# EAGLE library part KSZ9031RNXCC-TR (library KSZ9031RNXCC-TR)
MICROCHIP - KSZ9031RNXCC-TR - Ethernet Controller, 1 Gbps, IEEE 802.3, 1.14 V, 3.465 V, QFN, 48 Pins Source: Datasheet <http://www.microchip.com/mymicrochip/filehandler.aspx?ddocname=en585516>
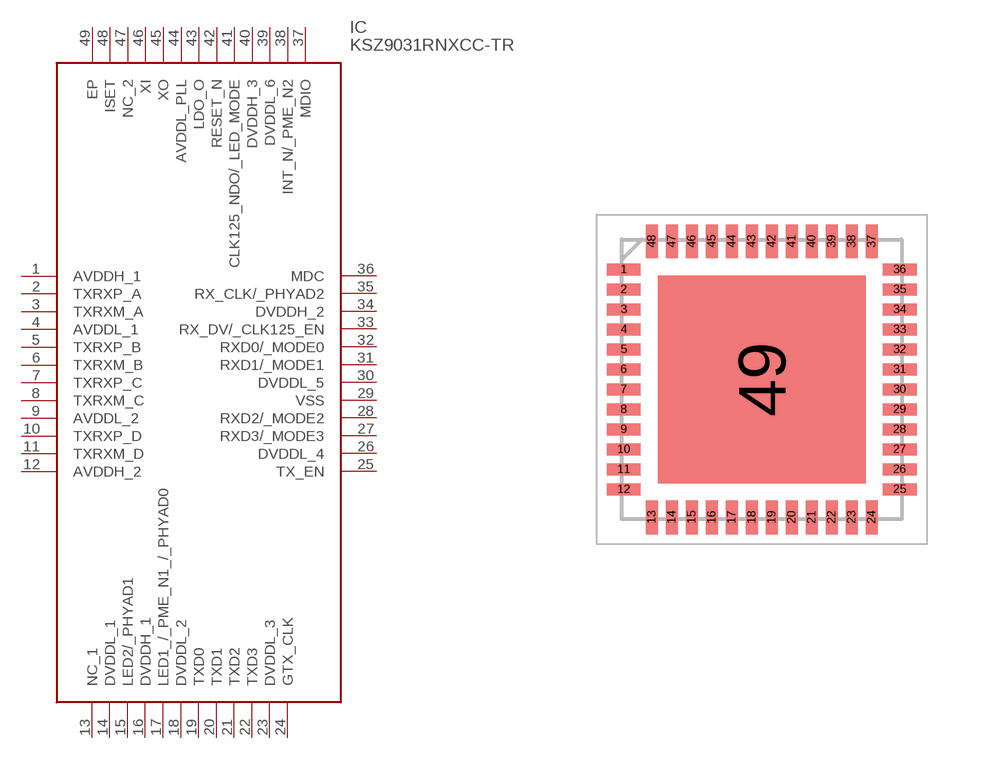
[diagram p0: symbol with the pads of QFN50P700X700X100-49N; footprint QFN50P700X700X100-49N]

Designator prefix IC

## KSZ9031RNXCC-TR (Arrow_Part_Number: KSZ9031RNXCC-TR; Arrow_Price-Stock: https://www.arrow.com/en/products/ksz9031rnxcc-tr/microchip-technology?region=nac; Description: MICROCHIP - KSZ9031RNXCC-TR - Ethernet Controller, 1 Gbps, IEEE 802.3, 1.14 V, 3.465 V, QFN, 48 Pins; Height: 1mm; Manufacturer_Name: Microchip; Manufacturer_Part_Number: KSZ9031RNXCC-TR; Mouser_Part_Number: 998-KSZ9031RNXCCTR; Mouser_Price-Stock: https://www.mouser.co.uk/ProductDetail/Microchip-Technology/KSZ9031RNXCC-TR?qs=U6T8BxXiZAVxmAZckgCcTw%3D%3D)  [QFN50P700X700X100-49N]
1  AVDDH_1
2  TXRXP_A
3  TXRXM_A
4  AVDDL_1
5  TXRXP_B
6  TXRXM_B
7  TXRXP_C
8  TXRXM_C
9  AVDDL_2
10  TXRXP_D
11  TXRXM_D
12  AVDDH_2
13  NC_1
14  DVDDL_1
15  LED2/_PHYAD1
16  DVDDH_1
17  LED1_/_PME_N1_/_PHYAD0
18  DVDDL_2
19  TXD0
20  TXD1
21  TXD2
22  TXD3
23  DVDDL_3
24  GTX_CLK
25  TX_EN
26  DVDDL_4
27  RXD3/_MODE3
28  RXD2/_MODE2
29  VSS
30  DVDDL_5
31  RXD1/_MODE1
32  RXD0/_MODE0
33  RX_DV/_CLK125_EN
34  DVDDH_2
35  RX_CLK/_PHYAD2
36  MDC
37  MDIO
38  INT_N/_PME_N2
39  DVDDL_6
40  DVDDH_3
41  CLK125_NDO/_LED_MODE
42  RESET_N
43  LDO_O
44  AVDDL_PLL
45  XO
46  XI
47  NC_2
48  ISET
49  EP

## Footprint QFN50P700X700X100-49N (pad centres in mm)
48-LEAD VERY THIN PLASTIC QUAD FLAT
smd 0.85 x 0.3: 1 -3.45,2.75; 2 -3.45,2.25; 3 -3.45,1.75; 4 -3.45,1.25; 5 -3.45,0.75; 6 -3.45,0.25; 7 -3.45,-0.25; 8 -3.45,-0.75; 9 -3.45,-1.25; 10 -3.45,-1.75; 11 -3.45,-2.25; 12 -3.45,-2.75; 25 3.45,-2.75; 26 3.45,-2.25; 27 3.45,-1.75; 28 3.45,-1.25; 29 3.45,-0.75; 30 3.45,-0.25; 31 3.45,0.25; 32 3.45,0.75; 33 3.45,1.25; 34 3.45,1.75; 35 3.45,2.25; 36 3.45,2.75
smd 0.3 x 0.85: 13 -2.75,-3.45; 14 -2.25,-3.45; 15 -1.75,-3.45; 16 -1.25,-3.45; 17 -0.75,-3.45; 18 -0.25,-3.45; 19 0.25,-3.45; 20 0.75,-3.45; 21 1.25,-3.45; 22 1.75,-3.45; 23 2.25,-3.45; 24 2.75,-3.45; 37 2.75,3.45; 38 2.25,3.45; 39 1.75,3.45; 40 1.25,3.45; 41 0.75,3.45; 42 0.25,3.45; 43 -0.25,3.45; 44 -0.75,3.45; 45 -1.25,3.45; 46 -1.75,3.45; 47 -2.25,3.45; 48 -2.75,3.45
smd 5.2 x 5.2: 49 0,0